# EAGLE library part LTC4352 (library biomimetic)
Low Voltage Ideal Diode Controller with Monitoring
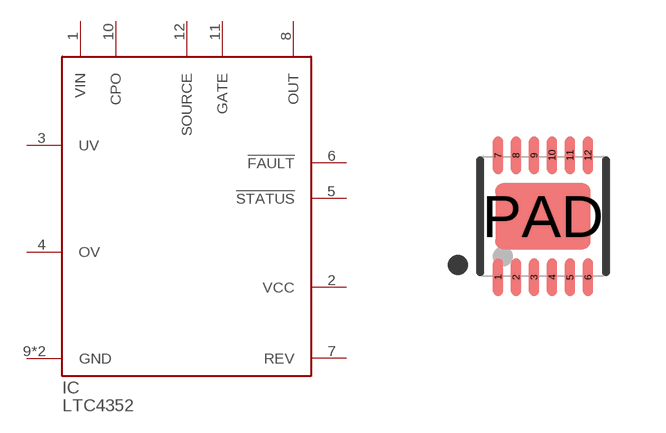
[diagram p19: symbol with the pads of DFN-12-3X3-DD; footprint DFN-12-3X3-DD]

Designator prefix IC

## LTC4352DD  [DFN-12-3X3-DD]
1  VIN
2  VCC
3  UV
4  OV
5  !STATUS
6  !FAULT
7  REV
8  OUT
9  GND
10  CPO
11  GATE
12  SOURCE
PAD  GND

## Footprint DFN-12-3X3-DD (pad centres in mm)
LTC DWG # 05-08-1725 Rev A
smd 0.25 x 0.95: 1 -1.125,-1.525; 2 -0.675,-1.525; 3 -0.225,-1.525; 4 0.225,-1.525; 5 0.675,-1.525; 6 1.125,-1.525; 7 -1.125,1.525; 8 -0.675,1.525; 9 -0.225,1.525; 10 0.225,1.525; 11 0.675,1.525; 12 1.125,1.525
smd 2.38 x 1.65: PAD 0,0